# Altium footprint library mycomp.PcbLib: 2 footprints
Each footprint in its own frame and in the unit in brackets; x right, y up, seen from the top. Pads: shape width x height; smd on the part's side, far side on the other; paste and mask are expansions set on the pad; w line width, h text height; cw(c..) or ccw(c..) is an arc to the next point about the centre after c.
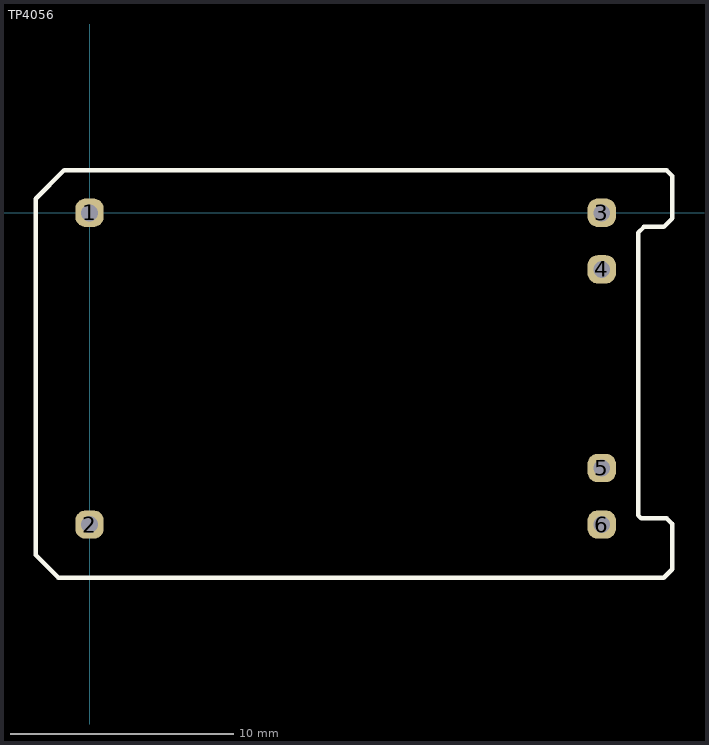
[diagram p0: the footprints below, top view; thin cyan lines are the x and y axes]

## PCBComponent_1 - duplicate [mil]

## TP4056 [mm]
pads (6):
  rrect70% 1.27x1.27 hole 0.762 mask+0.2: 1(0,0) 2(0,-14) 3(23,0) 4(23,-2.54) 5(23,-11.46) 6(23,-14)
Top Overlay:
  lines w0.2: -2.413,-15.367 -1.397,-16.383 23.876,-16.383 25.781,-16.383 26.162,-16.002 26.162,-13.97 25.908,-13.716 24.765,-13.716 24.638,-13.589 24.638,-0.889 24.892,-0.635 25.781,-0.635 26.162,-0.254 26.162,1.651 25.908,1.905 23.876,1.905 -1.143,1.905 -2.413,0.635 -2.413,-15.367